# EAGLE library part SI8660EC-B-IS1 (library custom)
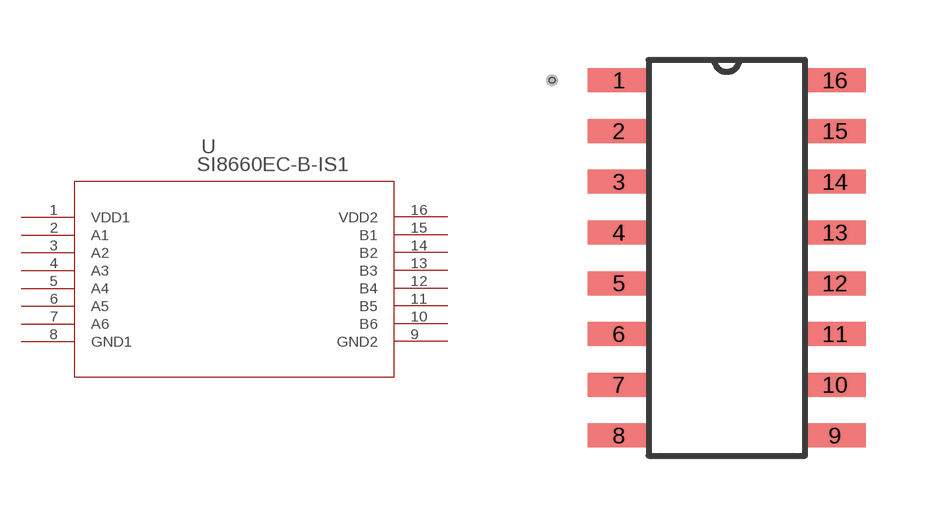
[diagram p2: symbol with the pads of SOIC-16; footprint SOIC-16]

Designator prefix U

## SI8660EC-B-IS1  [SOIC-16]
1  VDD1  pas
2  A1  in
3  A2  in
4  A3  in
5  A4  in
6  A5  in
7  A6  in
8  GND1  pas
9  GND2  pas
10  B6  out
11  B5  out
12  B4  out
13  B3  out
14  B2  out
15  B1  out
16  VDD2  pas

## Footprint SOIC-16 (pad centres in mm)
smd 1.55 x 0.6: 1 -2.7,4.445; 2 -2.7,3.175; 3 -2.7,1.905; 4 -2.7,0.635; 5 -2.7,-0.635; 6 -2.7,-1.905; 7 -2.7,-3.175; 8 -2.7,-4.445; 9 2.7,-4.445; 10 2.7,-3.175; 11 2.7,-1.905; 12 2.7,-0.635; 13 2.7,0.635; 14 2.7,1.905; 15 2.7,3.175; 16 2.7,4.445